# Altium integrated library TI Data Converters Analog to Digital Converter.IntLib: 2197 symbols (part 2 of 168)
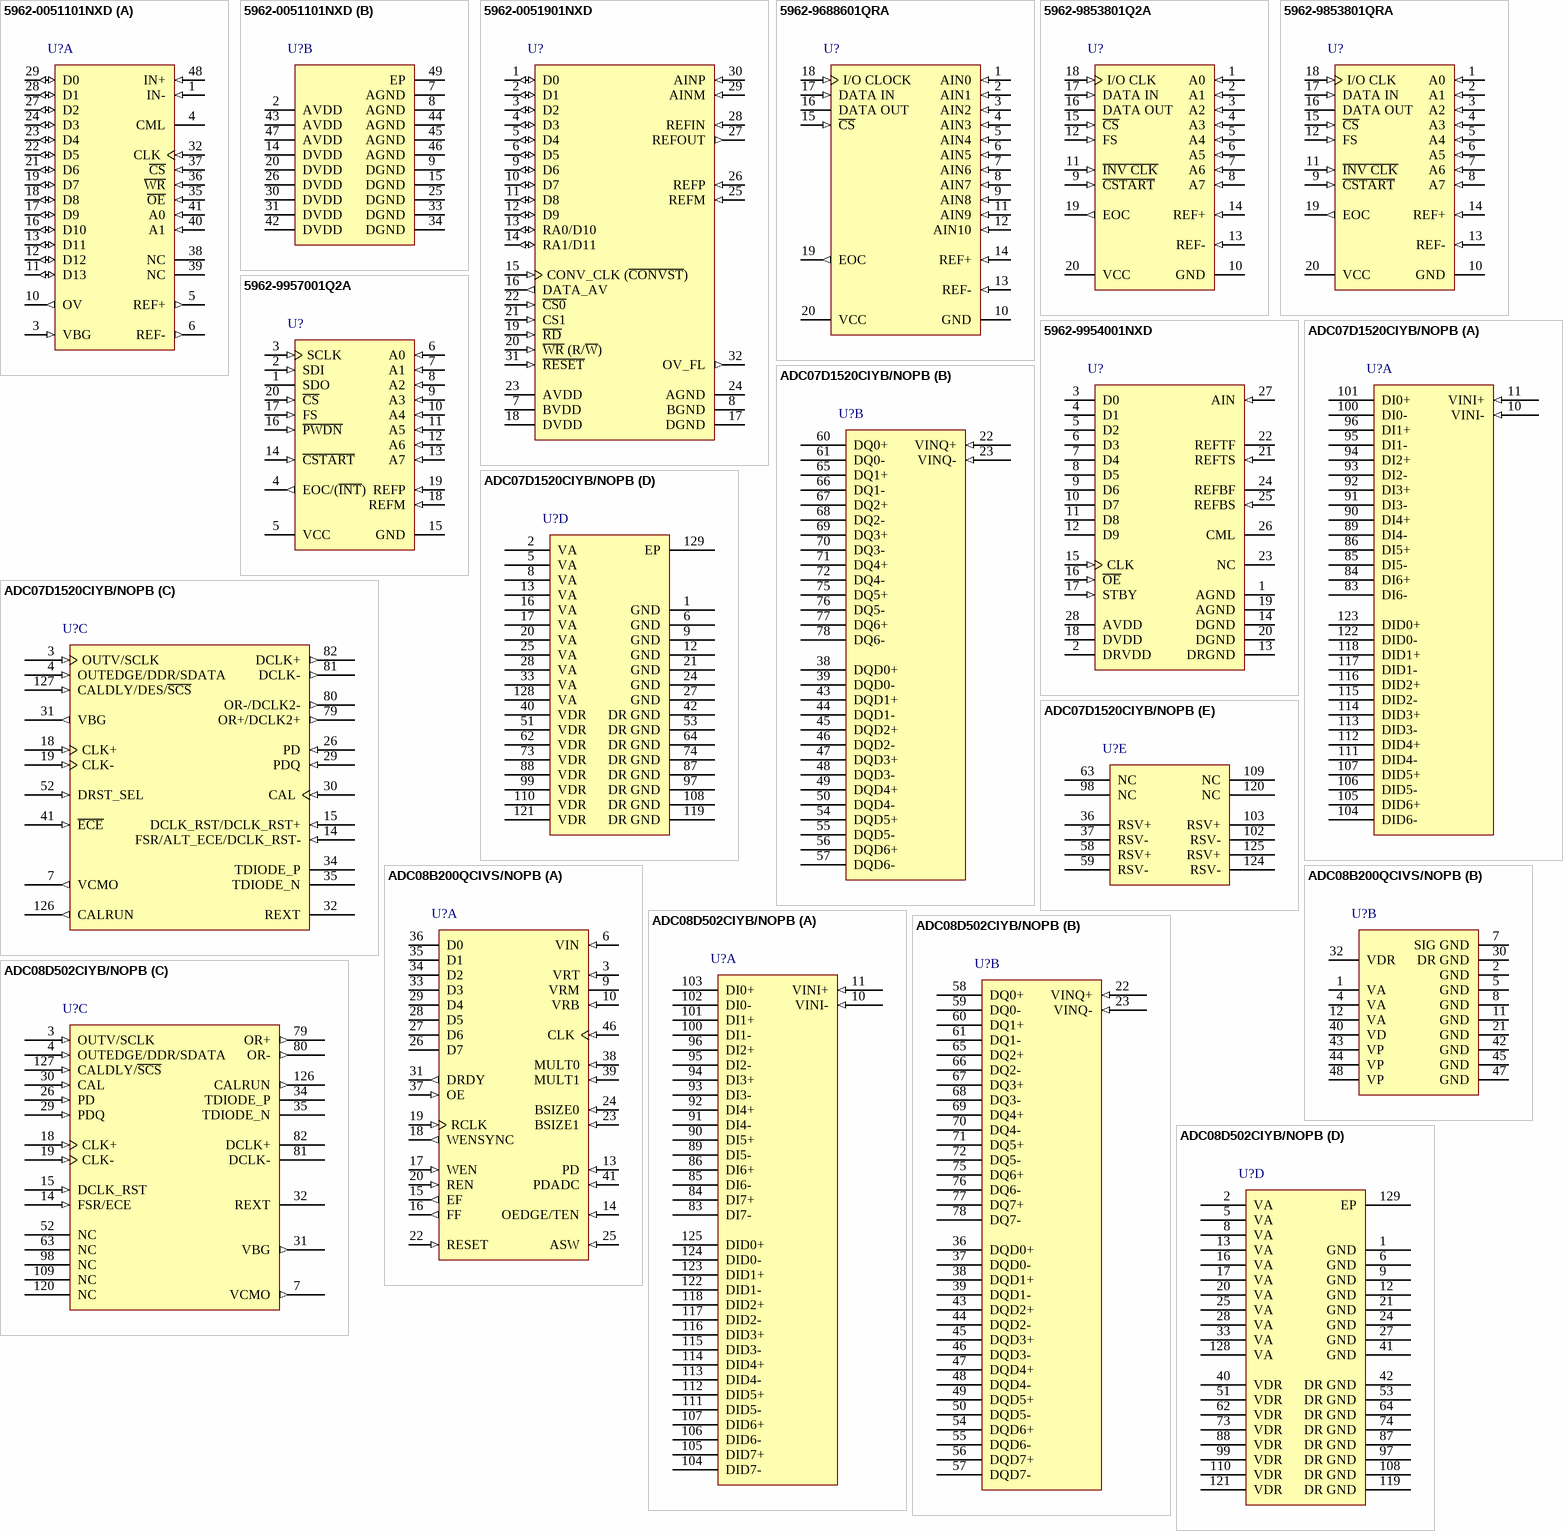
[diagram p127: symbols 5962-0051101NXD to ADC08D502CIYB/NOPB]

## ADC07D1520CIYB/NOPB
designator U?
Low Power, 7-Bit, Dual 1.5 GSPS or Single 3.0 GSPS ADC, -40 to 85 degC, 128-pin QFP (NNB128), Green (RoHS & no Sb/Br); Manufacturer: Texas Instruments; PartNumber: ADC07D1520CIYB/NOPB; # Input Channels: 2; Analog Voltage AV/DD(Min)(V): 1.8; Architecture: Folding Interpolating; ENOB(Bits): 6.8; Interface: Parallel LVDS; Resolution(Bits): 7; Sample Rate(max)(SPS): 1.5G; SFDR(dB): 61; SINAD(dB): 43; SNR(dB): 43.2; SubFamily: High Speed ADC (>=1GSPS); DatasheetVersion: SLAS881A; PackageVersion: Rev. B, 02/2013; PackageReference: NNB128-5000X5000TP; PackageDescription: 128-Pin Plastic Flat Pack, Body 20 x 20 mm, Pitch 0.5 mm; Supplier 1: Digi-Key; Supplier Part Number 1: 296-32019-2-ND; Supplier 2: Digi-Key; Supplier Part Number 2: 296-32019-1-ND; Supplier 3: Digi-Key; Supplier Part Number 3: 296-32019-6-ND; Supplier 4: Mouser; Supplier Part Number 4: 595-ADS7888SDCKR; Analog Voltage AV/DD(Max)(V): 2; Digital Supply(Max)(V): 2; Digital Supply(Min)(V): 1.8; Eco-Plan: Green (RoHS & no Sb/Br); Mounting Technology: Surface Mount; ComponentLink1Description: Manufacturer URL; ComponentLink1URL: http://www.ti.com/; ComponentLink2Description: Datasheet; ComponentLink2URL: http://www.ti.com/lit/ds/symlink/adc07d1520.pdf; ComponentLink3Description: Package Specification; ComponentLink3URL: http://www.ti.com/litv/pdf/mpqf323
footprint TI-NNB128-5000X5000TP_N (QFP, 128-Leads, Body 20x20mm, Pitch 0.5mm, Thermal Pad 5.1x5.1mm, IPC Medium Density)
footprint TI-NNB128-5000X5000TP_L (QFP, 128-Leads, Body 20x20mm, Pitch 0.5mm, Thermal Pad 5.1x5.1mm, IPC High Density)
footprint TI-NNB128-5000X5000TP_M (QFP, 128-Leads, Body 20x20mm, Pitch 0.5mm, Thermal Pad 5.1x5.1mm, IPC Low Density)
part A pins: 10 VINI- (in) "Analog signal inputs to the ADC. The differential full-scale input range of this input is programmable using the FSR pin 14 in Non-Extended Control Mode and the Input Full-Scale Voltage Adjust register in the Extended (See Datasheet)", 11 VINI+ (in) "Analog signal inputs to the ADC. The differential full-scale input range of this input is programmable using the FSR pin 14 in Non-Extended Control Mode and the Input Full-Scale Voltage Adjust register in the Extended (See Datasheet)", 83 DI6- (hiz) "I- and Q-channel LVDS Data Outputs that are not delayed in the output demultiplexer. Compared with the DId and DQd outputs, these outputs represent the later time samples. These outputs should always be terminated with a (See Datasheet)", 84 DI6+ (hiz) "I- and Q-channel LVDS Data Outputs that are not delayed in the output demultiplexer. Compared with the DId and DQd outputs, these outputs represent the later time samples. These outputs should always be terminated with a (See Datasheet)", 85 DI5- (hiz) "I- and Q-channel LVDS Data Outputs that are not delayed in the output demultiplexer. Compared with the DId and DQd outputs, these outputs represent the later time samples. These outputs should always be terminated with a (See Datasheet)", 86 DI5+ (hiz) "I- and Q-channel LVDS Data Outputs that are not delayed in the output demultiplexer. Compared with the DId and DQd outputs, these outputs represent the later time samples. These outputs should always be terminated with a (See Datasheet)", 89 DI4- (hiz) "I- and Q-channel LVDS Data Outputs that are not delayed in the output demultiplexer. Compared with the DId and DQd outputs, these outputs represent the later time samples. These outputs should always be terminated with a (See Datasheet)", 90 DI4+ (hiz) "I- and Q-channel LVDS Data Outputs that are not delayed in the output demultiplexer. Compared with the DId and DQd outputs, these outputs represent the later time samples. These outputs should always be terminated with a (See Datasheet)", 91 DI3- (hiz) "I- and Q-channel LVDS Data Outputs that are not delayed in the output demultiplexer. Compared with the DId and DQd outputs, these outputs represent the later time samples. These outputs should always be terminated with a (See Datasheet)", 92 DI3+ (hiz) "I- and Q-channel LVDS Data Outputs that are not delayed in the output demultiplexer. Compared with the DId and DQd outputs, these outputs represent the later time samples. These outputs should always be terminated with a (See Datasheet)", 93 DI2- (hiz) "I- and Q-channel LVDS Data Outputs that are not delayed in the output demultiplexer. Compared with the DId and DQd outputs, these outputs represent the later time samples. These outputs should always be terminated with a (See Datasheet)", 94 DI2+ (hiz) "I- and Q-channel LVDS Data Outputs that are not delayed in the output demultiplexer. Compared with the DId and DQd outputs, these outputs represent the later time samples. These outputs should always be terminated with a (See Datasheet)", 95 DI1- (hiz) "I- and Q-channel LVDS Data Outputs that are not delayed in the output demultiplexer. Compared with the DId and DQd outputs, these outputs represent the later time samples. These outputs should always be terminated with a (See Datasheet)", 96 DI1+ (hiz) "I- and Q-channel LVDS Data Outputs that are not delayed in the output demultiplexer. Compared with the DId and DQd outputs, these outputs represent the later time samples. These outputs should always be terminated with a (See Datasheet)", 100 DI0- (hiz) "I- and Q-channel LVDS Data Outputs that are not delayed in the output demultiplexer. Compared with the DId and DQd outputs, these outputs represent the later time samples. These outputs should always be terminated with a (See Datasheet)", 101 DI0+ (hiz) "I- and Q-channel LVDS Data Outputs that are not delayed in the output demultiplexer. Compared with the DId and DQd outputs, these outputs represent the later time samples. These outputs should always be terminated with a (See Datasheet)", 104 DID6- (hiz) "I- and Q-channel LVDS Data Outputs that are delayed by one CLK cycle in the output demultiplexer. Compared with he DI and DQ outputs, these outputs represent the earlier time sample. These outputs should always be terminated (See Datasheet)", 105 DID6+ (hiz) "I- and Q-channel LVDS Data Outputs that are delayed by one CLK cycle in the output demultiplexer. Compared with he DI and DQ outputs, these outputs represent the earlier time sample. These outputs should always be terminated (See Datasheet)", 106 DID5- (hiz) "I- and Q-channel LVDS Data Outputs that are delayed by one CLK cycle in the output demultiplexer. Compared with he DI and DQ outputs, these outputs represent the earlier time sample. These outputs should always be terminated (See Datasheet)", 107 DID5+ (hiz) "I- and Q-channel LVDS Data Outputs that are delayed by one CLK cycle in the output demultiplexer. Compared with he DI and DQ outputs, these outputs represent the earlier time sample. These outputs should always be terminated (See Datasheet)", 111 DID4- (hiz) "I- and Q-channel LVDS Data Outputs that are delayed by one CLK cycle in the output demultiplexer. Compared with he DI and DQ outputs, these outputs represent the earlier time sample. These outputs should always be terminated (See Datasheet)", 112 DID4+ (hiz) "I- and Q-channel LVDS Data Outputs that are delayed by one CLK cycle in the output demultiplexer. Compared with he DI and DQ outputs, these outputs represent the earlier time sample. These outputs should always be terminated (See Datasheet)", 113 DID3- (hiz) "I- and Q-channel LVDS Data Outputs that are delayed by one CLK cycle in the output demultiplexer. Compared with he DI and DQ outputs, these outputs represent the earlier time sample. These outputs should always be terminated (See Datasheet)", 114 DID3+ (hiz) "I- and Q-channel LVDS Data Outputs that are delayed by one CLK cycle in the output demultiplexer. Compared with he DI and DQ outputs, these outputs represent the earlier time sample. These outputs should always be terminated (See Datasheet)", 115 DID2- (hiz) "I- and Q-channel LVDS Data Outputs that are delayed by one CLK cycle in the output demultiplexer. Compared with he DI and DQ outputs, these outputs represent the earlier time sample. These outputs should always be terminated (See Datasheet)", 116 DID2+ (hiz) "I- and Q-channel LVDS Data Outputs that are delayed by one CLK cycle in the output demultiplexer. Compared with he DI and DQ outputs, these outputs represent the earlier time sample. These outputs should always be terminated (See Datasheet)", 117 DID1- (hiz) "I- and Q-channel LVDS Data Outputs that are delayed by one CLK cycle in the output demultiplexer. Compared with he DI and DQ outputs, these outputs represent the earlier time sample. These outputs should always be terminated (See Datasheet)", 118 DID1+ (hiz) "I- and Q-channel LVDS Data Outputs that are delayed by one CLK cycle in the output demultiplexer. Compared with he DI and DQ outputs, these outputs represent the earlier time sample. These outputs should always be terminated (See Datasheet)", 122 DID0- (hiz) "I- and Q-channel LVDS Data Outputs that are delayed by one CLK cycle in the output demultiplexer. Compared with he DI and DQ outputs, these outputs represent the earlier time sample. These outputs should always be terminated (See Datasheet)", 123 DID0+ (hiz) "I- and Q-channel LVDS Data Outputs that are delayed by one CLK cycle in the output demultiplexer. Compared with he DI and DQ outputs, these outputs represent the earlier time sample. These outputs should always be terminated (See Datasheet)"
part B pins: 22 VINQ+ (in) "Analog signal inputs to the ADC. The differential full-scale input range of this input is programmable using the FSR pin 14 in Non-Extended Control Mode and the Input Full-Scale Voltage Adjust register in the Extended (See Datasheet)", 23 VINQ- (in) "Analog signal inputs to the ADC. The differential full-scale input range of this input is programmable using the FSR pin 14 in Non-Extended Control Mode and the Input Full-Scale Voltage Adjust register in the Extended (See Datasheet)", 38 DQD0+ (hiz) "I- and Q-channel LVDS Data Outputs that are delayed by one CLK cycle in the output demultiplexer. Compared with he DI and DQ outputs, these outputs represent the earlier time sample. These outputs should always be terminated (See Datasheet)", 39 DQD0- (hiz) "I- and Q-channel LVDS Data Outputs that are delayed by one CLK cycle in the output demultiplexer. Compared with he DI and DQ outputs, these outputs represent the earlier time sample. These outputs should always be terminated (See Datasheet)", 43 DQD1+ (hiz) "I- and Q-channel LVDS Data Outputs that are delayed by one CLK cycle in the output demultiplexer. Compared with he DI and DQ outputs, these outputs represent the earlier time sample. These outputs should always be terminated (See Datasheet)", 44 DQD1- (hiz) "I- and Q-channel LVDS Data Outputs that are delayed by one CLK cycle in the output demultiplexer. Compared with he DI and DQ outputs, these outputs represent the earlier time sample. These outputs should always be terminated (See Datasheet)", 45 DQD2+ (hiz) "I- and Q-channel LVDS Data Outputs that are delayed by one CLK cycle in the output demultiplexer. Compared with he DI and DQ outputs, these outputs represent the earlier time sample. These outputs should always be terminated (See Datasheet)", 46 DQD2- (hiz) "I- and Q-channel LVDS Data Outputs that are delayed by one CLK cycle in the output demultiplexer. Compared with he DI and DQ outputs, these outputs represent the earlier time sample. These outputs should always be terminated (See Datasheet)", 47 DQD3+ (hiz) "I- and Q-channel LVDS Data Outputs that are delayed by one CLK cycle in the output demultiplexer. Compared with he DI and DQ outputs, these outputs represent the earlier time sample. These outputs should always be terminated (See Datasheet)", 48 DQD3- (hiz) "I- and Q-channel LVDS Data Outputs that are delayed by one CLK cycle in the output demultiplexer. Compared with he DI and DQ outputs, these outputs represent the earlier time sample. These outputs should always be terminated (See Datasheet)", 49 DQD4+ (hiz) "I- and Q-channel LVDS Data Outputs that are delayed by one CLK cycle in the output demultiplexer. Compared with he DI and DQ outputs, these outputs represent the earlier time sample. These outputs should always be terminated (See Datasheet)", 50 DQD4- (hiz) "I- and Q-channel LVDS Data Outputs that are delayed by one CLK cycle in the output demultiplexer. Compared with he DI and DQ outputs, these outputs represent the earlier time sample. These outputs should always be terminated (See Datasheet)", 54 DQD5+ (hiz) "I- and Q-channel LVDS Data Outputs that are delayed by one CLK cycle in the output demultiplexer. Compared with he DI and DQ outputs, these outputs represent the earlier time sample. These outputs should always be terminated (See Datasheet)", 55 DQD5- (hiz) "I- and Q-channel LVDS Data Outputs that are delayed by one CLK cycle in the output demultiplexer. Compared with he DI and DQ outputs, these outputs represent the earlier time sample. These outputs should always be terminated (See Datasheet)", 56 DQD6+ (hiz) "I- and Q-channel LVDS Data Outputs that are delayed by one CLK cycle in the output demultiplexer. Compared with he DI and DQ outputs, these outputs represent the earlier time sample. These outputs should always be terminated (See Datasheet)", 57 DQD6- (hiz) "I- and Q-channel LVDS Data Outputs that are delayed by one CLK cycle in the output demultiplexer. Compared with he DI and DQ outputs, these outputs represent the earlier time sample. These outputs should always be terminated (See Datasheet)", 60 DQ0+ (hiz) "I- and Q-channel LVDS Data Outputs that are not delayed in the output demultiplexer. Compared with the DId and DQd outputs, these outputs represent the later time samples. These outputs should always be terminated with a (See Datasheet)", 61 DQ0- (hiz) "I- and Q-channel LVDS Data Outputs that are not delayed in the output demultiplexer. Compared with the DId and DQd outputs, these outputs represent the later time samples. These outputs should always be terminated with a (See Datasheet)", 65 DQ1+ (hiz) "I- and Q-channel LVDS Data Outputs that are not delayed in the output demultiplexer. Compared with the DId and DQd outputs, these outputs represent the later time samples. These outputs should always be terminated with a (See Datasheet)", 66 DQ1- (hiz) "I- and Q-channel LVDS Data Outputs that are not delayed in the output demultiplexer. Compared with the DId and DQd outputs, these outputs represent the later time samples. These outputs should always be terminated with a (See Datasheet)", 67 DQ2+ (hiz) "I- and Q-channel LVDS Data Outputs that are not delayed in the output demultiplexer. Compared with the DId and DQd outputs, these outputs represent the later time samples. These outputs should always be terminated with a (See Datasheet)", 68 DQ2- (hiz) "I- and Q-channel LVDS Data Outputs that are not delayed in the output demultiplexer. Compared with the DId and DQd outputs, these outputs represent the later time samples. These outputs should always be terminated with a (See Datasheet)", 69 DQ3+ (hiz) "I- and Q-channel LVDS Data Outputs that are not delayed in the output demultiplexer. Compared with the DId and DQd outputs, these outputs represent the later time samples. These outputs should always be terminated with a (See Datasheet)", 70 DQ3- (hiz) "I- and Q-channel LVDS Data Outputs that are not delayed in the output demultiplexer. Compared with the DId and DQd outputs, these outputs represent the later time samples. These outputs should always be terminated with a (See Datasheet)", 71 DQ4+ (hiz) "I- and Q-channel LVDS Data Outputs that are not delayed in the output demultiplexer. Compared with the DId and DQd outputs, these outputs represent the later time samples. These outputs should always be terminated with a (See Datasheet)", 72 DQ4- (hiz) "I- and Q-channel LVDS Data Outputs that are not delayed in the output demultiplexer. Compared with the DId and DQd outputs, these outputs represent the later time samples. These outputs should always be terminated with a (See Datasheet)", 75 DQ5+ (hiz) "I- and Q-channel LVDS Data Outputs that are not delayed in the output demultiplexer. Compared with the DId and DQd outputs, these outputs represent the later time samples. These outputs should always be terminated with a (See Datasheet)", 76 DQ5- (hiz) "I- and Q-channel LVDS Data Outputs that are not delayed in the output demultiplexer. Compared with the DId and DQd outputs, these outputs represent the later time samples. These outputs should always be terminated with a (See Datasheet)", 77 DQ6+ (hiz) "I- and Q-channel LVDS Data Outputs that are not delayed in the output demultiplexer. Compared with the DId and DQd outputs, these outputs represent the later time samples. These outputs should always be terminated with a (See Datasheet)", 78 DQ6- (hiz) "I- and Q-channel LVDS Data Outputs that are not delayed in the output demultiplexer. Compared with the DId and DQd outputs, these outputs represent the later time samples. These outputs should always be terminated with a (See Datasheet)"
part C pins: 3 OUTV/SCLK (in), 4 OUTEDGE/DDR/SDATA (in), 7 VCMO (out) "Common Mode Voltage. This pin is the common mode output in d.c. coupling mode and also serves as the a.c. coupling mode select pin. When d.c. coupling is used at the analog inputs, the voltage output at this pin is required (See Datasheet)", 14 FSR/ALT_ECE/DCLK_RST- (in), 15 DCLK_RST/DCLK_RST+ (in), 18 CLK+ (in) "Differential clock input pins for the ADC. The differential clock signal must be a.c. coupled to these pins. The input signal is sampled on the falling edge of CLK+.", 19 CLK- (in) "Differential clock input pins for the ADC. The differential clock signal must be a.c. coupled to these pins. The input signal is sampled on the falling edge of CLK+.", 26 PD (in) "Power Down Pins. A logic high on the PD pin puts the entire device into the Power Down Mode.", 29 PDQ (in) "Power Down Q-channel. A logic high on the PDQ pin puts only the Q-channel into the Power Down Mode.", 30 CAL (in) "Calibration Cycle Initiate. A minimum tCAL_L input clock cycles logic low followed by a minimum of tCAL_H input clock cycles high on this pin initiates the self calibration sequence.", 31 VBG (out) "Bandgap output voltage. This pin is capable of sourcing or sinking 100 uA and can drive a load up to 80 pF.", 32 REXT "External bias resistor connection. Nominal value is 3.3 Kohm (+/-0.1%) to ground.", 34 TDIODE_P "Temperature Diode Positive (Anode) and Negative (Cathode). These pins may be used for die temperature measurements, however no specified accuracy is implied or guaranteed. Noise coupling from adjacent output data signals has (See Datasheet)", 35 TDIODE_N "Temperature Diode Positive (Anode) and Negative (Cathode). These pins may be used for die temperature measurements, however no specified accuracy is implied or guaranteed. Noise coupling from adjacent output data signals has (See Datasheet)", 41 ~{ECE} (in) "Extended Control Enable. This pin always enables or disables Extended Control Mode. When this pin is set logic high, the Extended Control Mode is inactive and all control of the device must be through control pins only . (See Datasheet)", 52 DRST_SEL (in) "DCLK_RST select. This pin selects whether the DCLK is reset using a single-ended or differential signal. When this pin is floating or logic high, the DCLK_RST operation is single-ended and pin 14 functions as FSR/ALT_ECE. (See Datasheet)", 79 OR+/DCLK2+ (out), 80 OR-/DCLK2- (out), 81 DCLK- (out) "Data Clock. Differential Clock outputs used to latch the output data. Delayed and non-delayed data outputs are supplied synchronously to this signal. In 1:2 Demux Mode, this signal is at 1/2 the input clock rate in SDR mode (See Datasheet)", 82 DCLK+ (out) "Data Clock. Differential Clock outputs used to latch the output data. Delayed and non-delayed data outputs are supplied synchronously to this signal. In 1:2 Demux Mode, this signal is at 1/2 the input clock rate in SDR mode (See Datasheet)", 126 CALRUN (out) "Calibration Running indication. This pin is at a logic high when calibration is running.", 127 CALDLY/DES/~{SCS} (in)
part D pins: 1 GND (power) "Ground return for VA.", 2 VA (power) "Analog power supply pins. Bypass these pins to ground.", 5 VA (power) "Analog power supply pins. Bypass these pins to ground.", 6 GND (power) "Ground return for VA.", 8 VA (power) "Analog power supply pins. Bypass these pins to ground.", 9 GND (power) "Ground return for VA.", 12 GND (power) "Ground return for VA.", 13 VA (power) "Analog power supply pins. Bypass these pins to ground.", 16 VA (power) "Analog power supply pins. Bypass these pins to ground.", 17 VA (power) "Analog power supply pins. Bypass these pins to ground.", 20 VA (power) "Analog power supply pins. Bypass these pins to ground.", 21 GND (power) "Ground return for VA.", 24 GND (power) "Ground return for VA.", 25 VA (power) "Analog power supply pins. Bypass these pins to ground.", 27 GND (power) "Ground return for VA.", 28 VA (power) "Analog power supply pins. Bypass these pins to ground.", 33 VA (power) "Analog power supply pins. Bypass these pins to ground.", 40 VDR (power) "Output Driver power supply pins. Bypass these pins to DR GND.", 42 DR GND (power) "Ground return for VDR.", 51 VDR (power) "Output Driver power supply pins. Bypass these pins to DR GND.", 53 DR GND (power) "Ground return for VDR.", 62 VDR (power) "Output Driver power supply pins. Bypass these pins to DR GND.", 64 DR GND (power) "Ground return for VDR.", 73 VDR (power) "Output Driver power supply pins. Bypass these pins to DR GND.", 74 DR GND (power) "Ground return for VDR.", 87 DR GND (power) "Ground return for VDR.", 88 VDR (power) "Output Driver power supply pins. Bypass these pins to DR GND.", 97 DR GND (power) "Ground return for VDR.", 99 VDR (power) "Output Driver power supply pins. Bypass these pins to DR GND.", 108 DR GND (power) "Ground return for VDR.", 110 VDR (power) "Output Driver power supply pins. Bypass these pins to DR GND.", 119 DR GND (power) "Ground return for VDR.", 121 VDR (power) "Output Driver power supply pins. Bypass these pins to DR GND.", 128 VA (power) "Analog power supply pins. Bypass these pins to ground.", 129 EP (power) "The exposed pad on the bottom of the package must be soldered to ground plane to ensure rated performance"
part E pins: 36 RSV+ "RSVReserved. These pins may be left unconnected and floating, or as recommended in 2.5.1 Terminating RSV Pins.", 37 RSV- "RSVReserved. These pins may be left unconnected and floating, or as recommended in 2.5.1 Terminating RSV Pins.", 58 RSV+ "RSVReserved. These pins may be left unconnected and floating, or as recommended in 2.5.1 Terminating RSV Pins.", 59 RSV- "RSVReserved. These pins may be left unconnected and floating, or as recommended in 2.5.1 Terminating RSV Pins.", 63 NC "No Connection. Make no connection to these pins.", 98 NC "No Connection. Make no connection to these pins.", 102 RSV- "RSVReserved. These pins may be left unconnected and floating, or as recommended in 2.5.1 Terminating RSV Pins.", 103 RSV+ "RSVReserved. These pins may be left unconnected and floating, or as recommended in 2.5.1 Terminating RSV Pins.", 109 NC "No Connection. Make no connection to these pins.", 120 NC "No Connection. Make no connection to these pins.", 124 RSV- "RSVReserved. These pins may be left unconnected and floating, or as recommended in 2.5.1 Terminating RSV Pins.", 125 RSV+ "RSVReserved. These pins may be left unconnected and floating, or as recommended in 2.5.1 Terminating RSV Pins."

## ADC08B200QCIVS/NOPB
designator U?
8-Bit, 200 MSPS ADC with Capture Buffer, -40 to 105 degC, 48-pin QFP (PFB48), Green (RoHS & no Sb/Br); Manufacturer: Texas Instruments; PartNumber: ADC08B200QCIVS/NOPB; # Input Channels: 1; Analog Voltage AV/DD(Max)(V): 3.6; Analog Voltage AV/DD(Min)(V): 3; Digital Supply(Min)(V): 2.7; ENOB(Bits): 7.2; INL(Max)(+/-LSB): 1.3; Interface: Parallel CMOS; Resolution(Bits): 8; Sample Rate(max)(SPS): 200M; SFDR(dB): 56; SINAD(dB): 45; SNR(dB): 46.3; SubFamily: High Speed ADC (>10MSPS); DatasheetVersion: SNAS388F; PackageVersion: 4073176/B, 10/1996; PackageReference: PFB48; PackageDescription: 48-Pin Plastic Flat Pack, Body 7 x 7 mm, Pitch 0.5 mm; Supplier 1: Digi-Key; Supplier Part Number 1: 296-18269-2-ND; Supplier 2: Digi-Key; Supplier Part Number 2: 296-18269-1-ND; Supplier 3: Digi-Key; Supplier Part Number 3: 296-18269-6-ND; Supplier 4: Farnell; Supplier Part Number 4: 1754731; Supplier 5: Newark; Supplier Part Number 5: 43K9046; Supplier 6: Mouser; Supplier Part Number 6: 595-ADS7888SDCKT; Digital Supply(Max)(V): 3.6; Eco-Plan: Green (RoHS & no Sb/Br); Mounting Technology: Surface Mount; Code_JEDEC: MS-026; ComponentLink1Description: Manufacturer URL; ComponentLink1URL: http://www.ti.com/; ComponentLink2Description: Datasheet; ComponentLink2URL: http://www.ti.com/lit/ds/symlink/adc08b200-q1.pdf; ComponentLink3Description: Package Specification; ComponentLink3URL: http://www.ti.com/lit/ml/mtqf019a/mtqf019a.pdf
footprint TI-PFB48_N (QFP, 48-Leads, Body 7x7mm, Pitch 0.5mm, IPC Medium Density)
footprint TI-PFB48_L (QFP, 48-Leads, Body 7x7mm, Pitch 0.5mm, IPC High Density)
footprint TI-PFB48_M (QFP, 48-Leads, Body 7x7mm, Pitch 0.5mm, IPC Low Density)
part A pins: 3 VRT (in) "Analog Input that is the high (top) side of the reference ladder of the ADC. Voltage on VRT and VRB inputs define the VIN conversion range. VRT should be more positive than VRB. Bypass well.", 6 VIN (in) "Analog signal input. Conversion range is VRB to VRT.", 9 VRM "Analog input that is the mid-point of the reference ladder. This pin should be bypassed to a quiet point in the ground plane with a 0.1 uF capacitor. DO NOT LOAD this pin.", 10 VRB (in) "Analog Input that is the low side (bottom) of the reference ladder of the ADC. The voltages on VRT and VRB inputs define the VIN conversion range. Bypass well.", 13 PD (in) "Chip Power Down input. When this pin is high, the entire chip is in the Power Down mode. Any data in the capture buffer is lost and the output pins hold the last byte that was output.", 14 OEDGE/TEN (in) "Output Edge Select or Test Mode Enable input. If this input is high, the data outputs transition with the rising edge of the DRDY output. If this input is low, the data outputs transition with the falling edge of the DRDY (See Datasheet)", 15 EF (out) "Buffer Empty Flag. This output is high when the capture buffer is empty.", 16 FF (out) "Buffer Full Flag. This output is high when the capture buffer is full.", 17 WEN (in) "Write Enable input. A high level at this input causes a byte of data to be written into the capture buffer with the rise of each sample clock.", 18 WENSYNC (out) "Synchronized WEN output. The WEN control input is synchronized on-chip with the internal sample clock and is provided at this output.", 19 RCLK (in) "Buffer Read Clock input. When the capture buffer is enabled, this input signal is used to read the data from the internal buffer. The data output and the buffer empty flag (EF) transition with the rise of this clock.", 20 REN (in) "Read Enable input. A high level at this input causes a byte of data to be read from the capture buffer with the rise of each RCLK input. This rise of the REN input should be synchronous with the RCLK input and should not be (See Datasheet)", 22 RESET (in) "Device Reset Input. A high level at this input resets all control logic on the chip.", 23 BSIZE1 (in) "Buffer Size input. These inputs determine the size of the buffer, as described in the Functional Description.", 24 BSIZE0 (in) "Buffer Size input. These inputs determine the size of the buffer, as described in the Functional Description.", 25 ASW (in) "Auto-Stop Write input. This pin has a dual function. With the buffer enabled, this pin acts as the ASW input. When this input is high, writing to the buffer is halted when the capture buffer is full (FF high). When the (See Datasheet)", 26 D7 (hiz) "Digital data digital Outputs. D0 is the LSB, D7 is the MSB.", 27 D6 (hiz) "Digital data digital Outputs. D0 is the LSB, D7 is the MSB.", 28 D5 (hiz) "Digital data digital Outputs. D0 is the LSB, D7 is the MSB.", 29 D4 (hiz) "Digital data digital Outputs. D0 is the LSB, D7 is the MSB.", 31 DRDY (out) "Data Ready output. This signal transitions with the transition of the digital data outputs and indicates that the output data is ready.", 33 D3 (hiz) "Digital data digital Outputs. D0 is the LSB, D7 is the MSB.", 34 D2 (hiz) "Digital data digital Outputs. D0 is the LSB, D7 is the MSB.", 35 D1 (hiz) "Digital data digital Outputs. D0 is the LSB, D7 is the MSB.", 36 D0 (hiz) "Digital data digital Outputs. D0 is the LSB, D7 is the MSB.", 37 OE (in) "Output Enable input. A high level at this input enables the output buffers. A low level at this input puts the digital data output pins into a high impedance state.", 38 MULT0 (in) "Clock Multiply Factor input. These inputs determine the internal clock PLL's multiplication factor.", 39 MULT1 (in) "Clock Multiply Factor input. These inputs determine the internal clock PLL's multiplication factor.", 41 PDADC (in) "ADC Power Down Input. When this pin is high, the ADC is powered down. The capture buffer is active and the data within it may be clocked out.", 46 CLK (in) "CMOS/TTL compatible digital clock Input. When the PLL is bypassed, the clock signal at this pin is the ADC sampling clock and VIN is sampled on the rising edge of this clock input. When the PLL is enabled, the signal at this (See Datasheet)"
part B pins: 1 VA (power) "Positive analog supply pin. Connect to a voltage source of +3.3V.", 2 GND (power) "The ground return for the chip core.", 4 VA (power) "Positive analog supply pin. Connect to a voltage source of +3.3V.", 5 GND (power) "The ground return for the chip core.", 7 SIG GND (power) "Analog input signal ground.", 8 GND (power) "The ground return for the chip core.", 11 GND (power) "The ground return for the chip core.", 12 VA (power) "Positive analog supply pin. Connect to a voltage source of +3.3V.", 21 GND (power) "The ground return for the chip core.", 30 DR GND (power) "The ground return for the output drivers.", 32 VDR (power) "Power supply for the output drivers. Connect to a voltage source of 2.7V to VD.", 40 VD (power) "Digital core supply pin. Connect to a voltage source of +3.3V.", 42 GND (power) "The ground return for the chip core.", 43 VP (power) "PLL supply pin. Connect to a voltage source of +3.3V.", 44 VP (power) "PLL supply pin. Connect to a voltage source of +3.3V.", 45 GND (power) "The ground return for the chip core.", 47 GND (power) "The ground return for the chip core.", 48 VP (power) "PLL supply pin. Connect to a voltage source of +3.3V."